# Altium schematic symbol library Components.SchLib: 76 symbols (part 1 of 3)
Pins are listed as number, name and electrical type; pins without a type are passive.

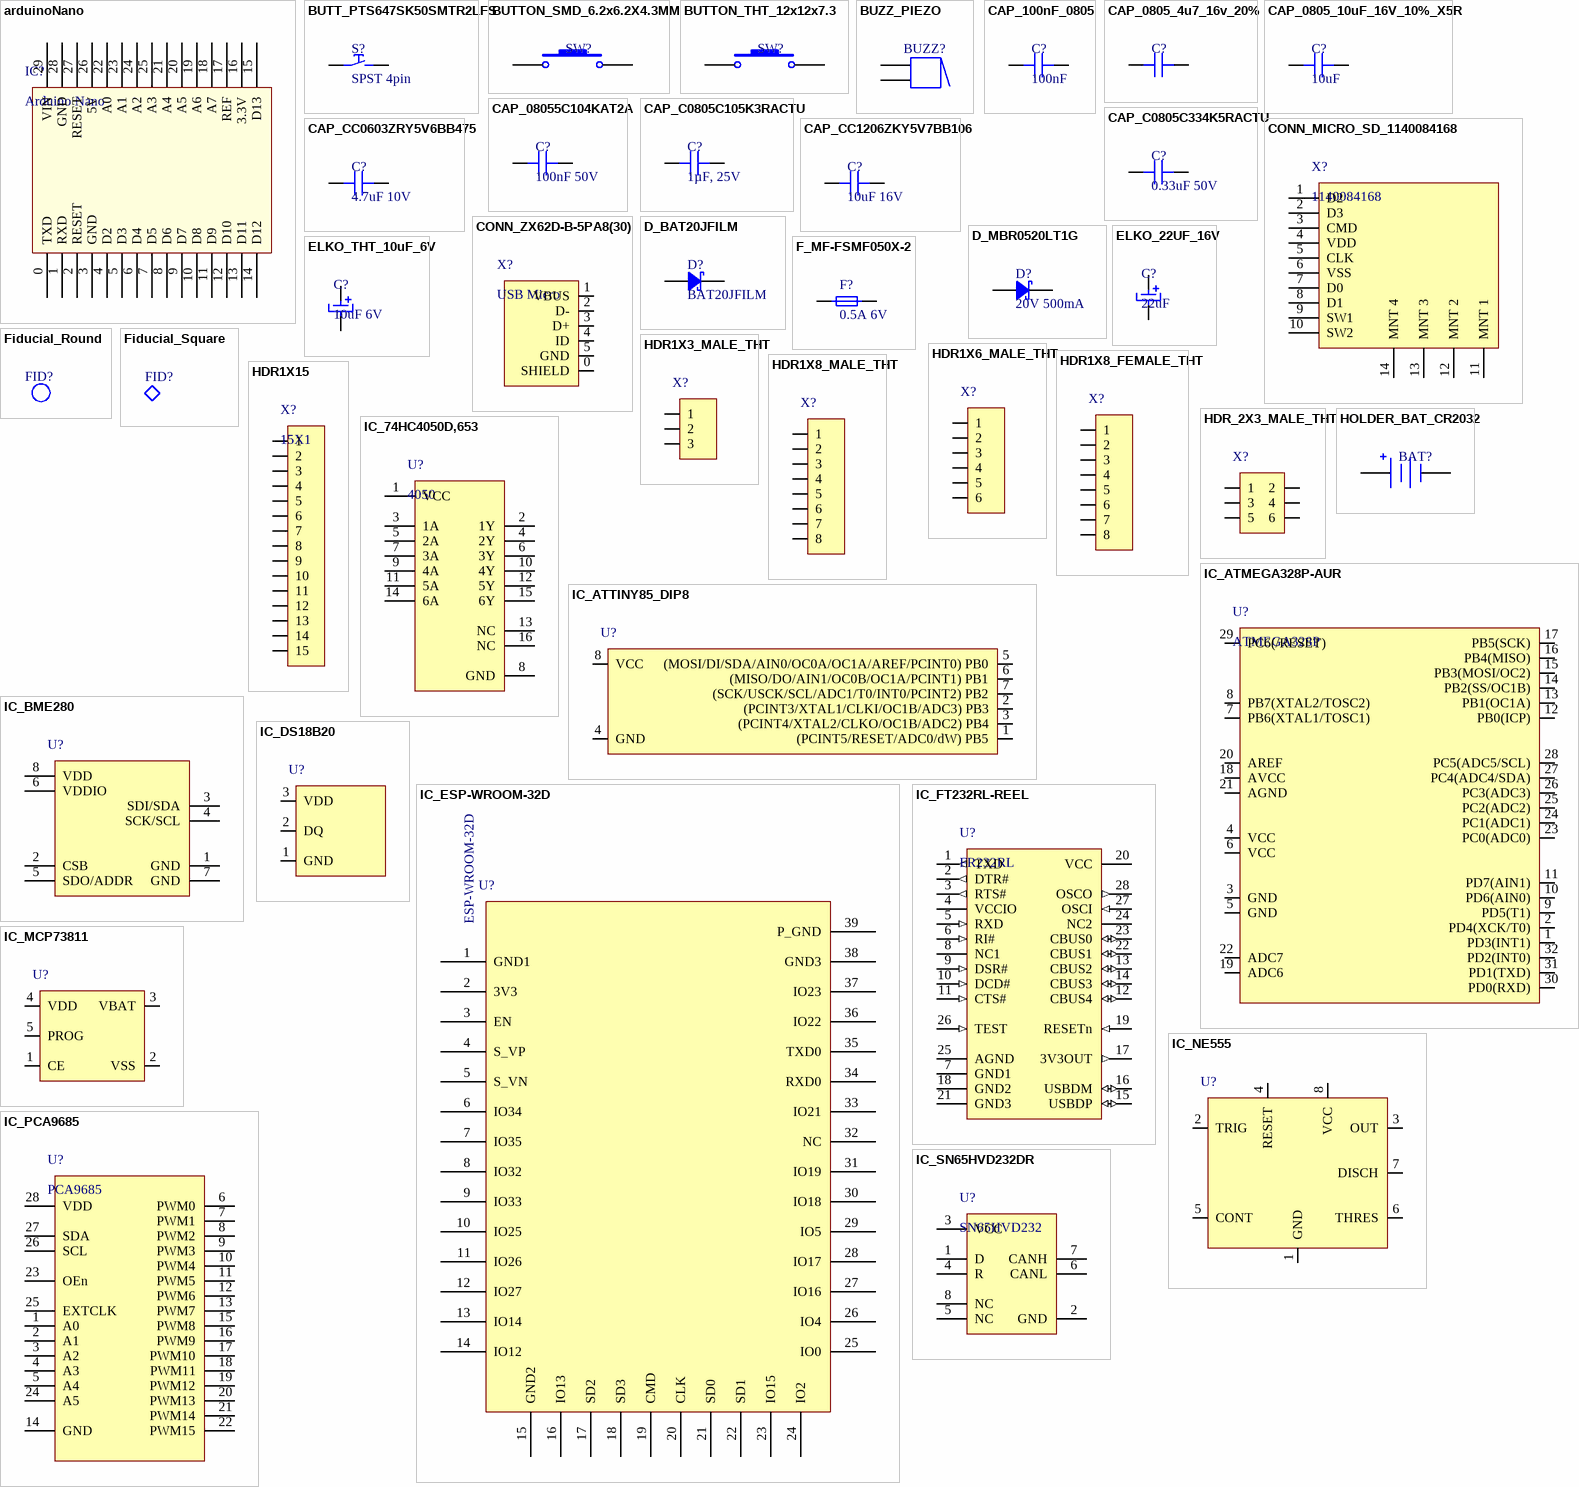
[diagram p0: symbols arduinoNano to IC_SN65HVD232DR]

## arduinoNano
designator IC?, comment Arduino Nano
A small, complete, and breadboard-friendly board based on the ATmega328P
footprint Arduino nano (arduino nano)
pins: 0 TXD, 1 RXD, 2 RESET, 3 GND, 4 D2, 5 D3, 6 D4, 7 D5, 8 D6, 9 D7, 10 D8, 11 D9, 12 D10, 13 D11, 14 D12, 15 D13, 16 3.3V, 17 REF, 18 A7, 19 A6, 20 A5, 21 A4, 22 A0, 23 A1, 24 A2, 25 A3, 26 5V, 27 RESET, 28 GND, 29 VIN

## BUTT_PTS647SK50SMTR2LFS
designator S?, comment SPST 4pin
TACT 4.5 X 4.5, 5.0 MM H, 2.5N,; Manufacturer 1: ITT C&K; Manufacturer Part Number 1: PTS647SK50SMTR2LFS; Supplier 1: Mouser; Stock 1: 15725; Pricing 1: 1=0.160000, 10=0.156000, 25=0.152000, 50=0.146000, 100=0.139000, 250=0.129000, 500=0.124000, 1000=0.086000, 1500=0.082000, 10000=0.082000 (USD); RoHS: No; ComponentLink1URL: https://www.ckswitches.com/media/2567/pts647.pdf?src-supplier=Digi-Key; ComponentLink1Description: https://www.ckswitches.com/media/2567/pts647.pdf?src-supplier=Digi-Key; Supplier Part Number 1: 611-PTS647SK50SMTR2L
footprint TACTILE_SW_PTS647SK50SMTR2LFS (4.5 mm  x 4.5 mm x 5.0 mm)
pins: 1, 2, 3, 4

## BUTTON_SMD_6.2x6.2X4.3MM
designator SW?, comment Tactile switch  (value not drawn)
Diptronics DTSM-61N-V-B SMD Push Button 6 x 4.3mm; Throw Configuration: SPST; Operating Force: 1.57N; Max Voltage Rating (DC): 12V; Contact Resistance: 100mR; Supplier 1: Mouser; Manufacturer 1: Diptronics; Manufacturer Part Number 1: DTSM-61N-V-B; RoHS: Yes; Category: Uncategorized; Stock 1: 5643; Pricing 1: 1=0.27000, 50=0.23200, 100=0.21000, 500=0.19100, 1000=0.17600, 2000=0.15600 (USD); Mount: Surface Mount; Case/Package: SMD/SMT; Contact Material: Stainless Steel; Min Operating Temperature: -25°C; Max Operating Temperature: 70°C; Termination: Gull Wing; Packaging: Rail/Tube; Length: 6mm; Height: 4.3mm; Width: 6mm; Radiation Hardening: No; ComponentLink1URL: https://datasheet.ciiva.com/20148/707546-da-en-01-20148799.pdf?src-supplier=Rapid+Electronics; ComponentLink1Description: https://datasheet.ciiva.com/20148/707546-da-en-01-20148799.pdf?src-supplier=Rapid+Electronics; ComponentLink2URL: https://datasheet.ciiva.com/26337/707546-da-01-en-smd-taster-26337236.pdf?src-supplier=Conrad; ComponentLink2Description: https://datasheet.ciiva.com/26337/707546-da-01-en-smd-taster-26337236.pdf?src-supplier=Conrad; Supplier Part Number 1: 113-DTSM-61N-V-B
footprint TACTILE_SW_6.2mm x 6.2mm x 4.3mm (6.2mm x 6.2mm x 4.3mm)
pins: 1, 2, 3, 4

## BUTTON_THT_12x12x7.3
designator SW?, comment Tactile switch  (value not drawn)
12x12x7.3 mm Tactile Switches Yellow Square Push Button Tact Switch 12*12*7.3 mm Micro switch
footprint BUTTON 12x12x7.3 with cap
pins: 1, 2, 3, 4

## BUZZ_PIEZO
designator BUZZ?, comment Piezo  (value not drawn)
Piezo buzzer
footprint BUZZER_12mmDIA_6.5mmPITCH_8.5mmHEIGHT
pins: 1, 2

## CAP_100nF_0805
designator C?, comment 100nF
Multilayer Ceramic Capacitors MLCC - SMD/SMT WCAP-CSGP 0.1uF 0805 10% 50V MLCC; Manufacturer 1: Wurth Electronics; Manufacturer Part Number 1: 885012207098; Dielectric: X7R; Supplier 1: Mouser; Stock 1: 160801; Pricing 1: 1=0.10000, 10=0.07500, 25=0.07500, 50=0.07500, 100=0.06700, 250=0.06700 (USD); RoHS: Yes; Mount: Surface Mount; Case/Package: 0805; Case Code (Metric): 2012; Case Code (Imperial): 0805; Min Operating Temperature: -55°C; Max Operating Temperature: 125°C; Packaging: Cut Tape; Capacitance: 100nF; Voltage Rating: 50V; Tolerance: 10%; Voltage Rating (DC): 50V; Length: 0.079inch; Width: 0.049inch; Thickness: 0.035inch; REACH SVHC: Unknown; ComponentLink1URL: http://www.farnell.com/datasheets/1958498.pdf?src-supplier=Farnell; ComponentLink1Description: http://www.farnell.com/datasheets/1958498.pdf?src-supplier=Farnell; ComponentLink2URL: http://www.farnell.com/datasheets/1958498.pdf?src-supplier=Element14; ComponentLink2Description: http://www.farnell.com/datasheets/1958498.pdf?src-supplier=Element14; ComponentLink3URL: https://katalog.we-online.de/pbs/datasheet/885012207098.pdf?src-supplier=Digi-Key; ComponentLink3Description: https://katalog.we-online.de/pbs/datasheet/885012207098.pdf?src-supplier=Digi-Key; Supplier Part Number 1: 710-885012207098
footprint CAP 0805/2012 (Chip Capacitor, 2-Leads, Body 2.00x1.20mm, IPC Medium Density)
pins: 1, 2

## CAP_0805_4u7_16v_20%
designator C?, comment 4.7uF  (value not drawn)
Multilayer Ceramic Capacitors MLCC - SMD/SMT WCAP-CSGP 4.7uF 0805 20% 16V MLCC; Manufacturer 1: Wurth Electronics; Manufacturer Part Number 1: 885012107013; Supplier 1: Mouser; Stock 1: 5656; Pricing 1: 1=0.14000, 10=0.12700, 25=0.12700, 50=0.12700, 100=0.11400, 250=0.11400, 500=0.10000, 3000=0.09800 (USD); RoHS: Yes; Mount: Surface Mount; Case/Package: 0805; Case Code (Metric): 2012; Case Code (Imperial): 0805; Min Operating Temperature: -55°C; Max Operating Temperature: 85°C; Packaging: Tape and Reel; Capacitance: 4.7uF; Voltage Rating: 16V; Tolerance: 20%; Length: 0.079inch; Width: 0.049inch; Thickness: 0.057inch; ComponentLink1URL: http://www.farnell.com/datasheets/2031768.pdf?src-supplier=Farnell; ComponentLink1Description: http://www.farnell.com/datasheets/2031768.pdf?src-supplier=Farnell; ComponentLink2URL: https://katalog.we-online.de/pbs/datasheet/885012107013.pdf?src-supplier=Digi-Key; ComponentLink2Description: https://katalog.we-online.de/pbs/datasheet/885012107013.pdf?src-supplier=Digi-Key; Supplier Part Number 1: 710-885012107013
footprint CAP 0805/2012 (Chip Capacitor, 2-Leads, Body 2.00x1.20mm, IPC Medium Density)
pins: 1, 2

## CAP_0805_10uF_16V_10%_X5R
designator C?, comment 10uF
Multilayer Ceramic Capacitors MLCC - SMD/SMT 0805 16VDC 10uF 10% X5R; Manufacturer 1: Taiyo Yuden; Manufacturer Part Number 1: EMK212BJ106KG-T; Voltage Rating (DC): 16V; Supplier 1: Mouser; Stock 1: 550728; Pricing 1: 1=0.18000, 10=0.07300, 100=0.05000, 500=0.04300, 1000=0.03500, 3000=0.02800 (USD); RoHS: Yes; Mount: Surface Mount; Case/Package: 0805; Number of Pins: 2; Case Code (Metric): 2012; Case Code (Imperial): 0805; Min Operating Temperature: -55°C; Max Operating Temperature: 85°C; Capacitance: 10uF; Packaging: Tape and Reel; Tolerance: 10%; Dielectric: X5R; Voltage Rating: 16V; Package Quantity: 1; Termination: SMD/SMT; Composition: Ceramic; Voltage: 16V; Length: 2mm; Height: 1.25mm; Width: 0.049inch; Depth: 1.25mm; Thickness: 0.053inch; Radiation Hardening: No; Lead Free: Lead Free; REACH SVHC: No SVHC; ComponentLink1URL: https://datasheet.ciiva.com/26871/getdatasheetpartid-638258-26871376.pdf?src-supplier=Verical; ComponentLink1Description: https://datasheet.ciiva.com/26871/getdatasheetpartid-638258-26871376.pdf?src-supplier=Verical; ComponentLink2URL: https://datasheet.ciiva.com/22745/1497285-22745845.pdf?src-supplier=Element14; ComponentLink2Description: https://datasheet.ciiva.com/22745/1497285-22745845.pdf?src-supplier=Element14; ComponentLink3URL: https://datasheet.ciiva.com/5815/1497285-5815974.pdf?src-supplier=Farnell; ComponentLink3Description: https://datasheet.ciiva.com/5815/1497285-5815974.pdf?src-supplier=Farnell; ComponentLink4URL: https://datasheet.ciiva.com/22646/1497285-22646823.pdf?src-supplier=Farnell; ComponentLink4Description: https://datasheet.ciiva.com/22646/1497285-22646823.pdf?src-supplier=Farnell; ComponentLink5URL: https://datasheet.ciiva.com/30216/mlcc-all-e-30216073.pdf?src-supplier=Onlinecomponents.com; ComponentLink5Description: https://datasheet.ciiva.com/30216/mlcc-all-e-30216073.pdf?src-supplier=Onlinecomponents.com; ComponentLink6URL: https://datasheet.ciiva.com/7975/1497285-7975643.pdf?src-supplier=Element14; ComponentLink6Description: https://datasheet.ciiva.com/7975/1497285-7975643.pdf?src-supplier=Element14; ComponentLink7URL: https://datasheet.ciiva.com/136/mlcc-all-e-136764.pdf?src-supplier=Digi-Key; ComponentLink7Description: https://datasheet.ciiva.com/136/mlcc-all-e-136764.pdf?src-supplier=Digi-Key; ComponentLink8URL: https://datasheet.ciiva.com/136/mlcc-all-e-136765.pdf?src-supplier=Digi-Key; ComponentLink8Description: https://datasheet.ciiva.com/136/mlcc-all-e-136765.pdf?src-supplier=Digi-Key; ComponentLink9URL: https://datasheet.ciiva.com/5424/mlcc-all-e-541559-5424733.pdf?src-supplier=Mouser; ComponentLink9Description: https://datasheet.ciiva.com/5424/mlcc-all-e-541559-5424733.pdf?src-supplier=Mouser; ComponentLink10URL: https://datasheet.ciiva.com/136/mlcc-all-e-136766.pdf?src-supplier=Digi-Key; ComponentLink10Description: https://datasheet.ciiva.com/136/mlcc-all-e-136766.pdf?src-supplier=Digi-Key; ComponentLink11URL: https://datasheet.ciiva.com/15920/mlcc-all-e-15920526.pdf?src-supplier=Onlinecomponents.com; ComponentLink11Description: https://datasheet.ciiva.com/15920/mlcc-all-e-15920526.pdf?src-supplier=Onlinecomponents.com; Supplier Part Number 1: 963-EMK212BJ106KG-T
footprint CAP 0805/2012 (Chip Capacitor, 2-Leads, Body 2.00x1.20mm, IPC Medium Density)
pins: 1, 2

## CAP_08055C104KAT2A
designator C?, comment 100nF 50V
CAP CER 0.1UF 50V X7R 0805; Manufacturer 1: Kyocera AVX; Manufacturer Part Number 1: 08055C104KAT2A; Dielectric Material: Ceramic; Tolerance: 10%; Dissipation Factor: 2.5%; Insulation Resistance: 100GR; Supplier 1: Mouser; Stock 1: 2316993; Pricing 1: 1=0.190000, 10=0.140000, 50=0.140000, 100=0.066000, 500=0.046000, 1000=0.038000, 2000=0.032000, 4000=0.030000, 10000=0.030000 (USD); RoHS: Yes; Mount: Surface Mount,PCB; Case/Package: 0805; Number of Pins: 2; Case Code (Metric): 2012; Case Code (Imperial): 0805; Min Operating Temperature: -55°C; Max Operating Temperature: 125°C; Capacitance: 100nF; Dielectric: X7R; Voltage Rating (DC): 50V; Packaging: Tape and Reel; Voltage Rating: 50V; Package Quantity: 1; Termination: SMD/SMT; Voltage: 50V; Length: 2.01mm; Height: 0.94mm; Depth: 1.25mm; Width: 0.049inch; Thickness: 0.037inch; Radiation Hardening: No; REACH SVHC: No SVHC; Lead Free: Lead Free; ComponentLink1URL: https://datasheet.ciiva.com/19475/2009691-19475858.pdf?src-supplier=Jameco; ComponentLink1Description: https://datasheet.ciiva.com/19475/2009691-19475858.pdf?src-supplier=Jameco; ComponentLink2URL: https://datasheet.ciiva.com/11786/0900766b802d4698-11786116.pdf?src-supplier=RSComponents; ComponentLink2Description: https://datasheet.ciiva.com/11786/0900766b802d4698-11786116.pdf?src-supplier=RSComponents; ComponentLink3URL: https://datasheet.ciiva.com/150/cx7r-150257.pdf?src-supplier=Digi-Key; ComponentLink3Description: https://datasheet.ciiva.com/150/cx7r-150257.pdf?src-supplier=Digi-Key; ComponentLink4URL: https://datasheet.ciiva.com/150/cx7r-150258.pdf?src-supplier=Digi-Key; ComponentLink4Description: https://datasheet.ciiva.com/150/cx7r-150258.pdf?src-supplier=Digi-Key; ComponentLink5URL: https://datasheet.ciiva.com/150/cx7r-150259.pdf?src-supplier=Digi-Key; ComponentLink5Description: https://datasheet.ciiva.com/150/cx7r-150259.pdf?src-supplier=Digi-Key; ComponentLink6URL: https://datasheet.ciiva.com/16199/cx7r-16199014.pdf?src-supplier=Future+Electronics; ComponentLink6Description: https://datasheet.ciiva.com/16199/cx7r-16199014.pdf?src-supplier=Future+Electronics; ComponentLink7URL: https://datasheet.ciiva.com/16536/cx7r-16536873.pdf?src-supplier=Avnet+Asia; ComponentLink7Description: https://datasheet.ciiva.com/16536/cx7r-16536873.pdf?src-supplier=Avnet+Asia; ComponentLink8URL: https://datasheet.ciiva.com/16536/cx7r-16536875.pdf?src-supplier=Avnet+Asia; ComponentLink8Description: https://datasheet.ciiva.com/16536/cx7r-16536875.pdf?src-supplier=Avnet+Asia; ComponentLink9URL: https://datasheet.ciiva.com/11504/cx7r-11504044.pdf?src-supplier=Avnet; ComponentLink9Description: https://datasheet.ciiva.com/11504/cx7r-11504044.pdf?src-supplier=Avnet; ComponentLink10URL: https://datasheet.ciiva.com/2988/cx7r-2988014.pdf?src-supplier=Avnet; ComponentLink10Description: https://datasheet.ciiva.com/2988/cx7r-2988014.pdf?src-supplier=Avnet; ComponentLink11URL: https://datasheet.ciiva.com/5416/cx7r-5416959.pdf?src-supplier=Mouser; ComponentLink11Description: https://datasheet.ciiva.com/5416/cx7r-5416959.pdf?src-supplier=Mouser; ComponentLink12URL: https://datasheet.ciiva.com/7812/cx7r-7812079.pdf?src-supplier=Element14; ComponentLink12Description: https://datasheet.ciiva.com/7812/cx7r-7812079.pdf?src-supplier=Element14; Supplier Part Number 1: 581-08055C104K
footprint CAP 0805/2012 (Chip Capacitor, 2-Leads, Body 2.00x1.20mm, IPC Medium Density)
pins: 1, 2

## CAP_C0805C105K3RACTU
designator C?, comment 1µF, 25V
CAP, 1µF, 25V, 10%, X7R, 0805, KEMET; Manufacturer Part Number 1: C0805C105K3RACTU; Dielectric Material: Ceramic; Capacitance: 1uF; Supplier 1: Mouser; Manufacturer 1: KEMET; Stock 1: 158908; Pricing 1: 1=0.16000, 10=0.11600, 50=0.11600, 100=0.05500, 500=0.03900, 1000=0.03200, 2500=0.02400, 10000=0.02400 (USD); RoHS: Yes; Mount: Surface Mount; Case/Package: 0805; Number of Pins: 2; Case Code (Imperial): 0805; Case Code (Metric): 2012; Contact Plating: Tin,Matte; Min Operating Temperature: -55°C; Max Operating Temperature: 125°C; Tolerance: 10%; Packaging: Tape and Reel; Dielectric: X7R; Package Quantity: 1; Voltage Rating: 25V; Voltage Rating (DC): 25V; Termination: SMD/SMT; Voltage: 25V; Length: 2mm; Height: 1.25mm; Width: 0.049inch; Thickness: 0.055inch; Depth: 1.25mm; Radiation Hardening: No; REACH SVHC: No SVHC; ComponentLink1URL: https://datasheet.ciiva.com/6074/kem-c1002-x7r-smd-6074661.pdf?src-supplier=Farnell; ComponentLink1Description: https://datasheet.ciiva.com/6074/kem-c1002-x7r-smd-6074661.pdf?src-supplier=Farnell; ComponentLink2URL: https://datasheet.ciiva.com/28610/1918693-28610874.pdf?src-supplier=Element14; ComponentLink2Description: https://datasheet.ciiva.com/28610/1918693-28610874.pdf?src-supplier=Element14; ComponentLink3URL: https://datasheet.ciiva.com/46443/1851736-46443533.pdf?src-supplier=Element14; ComponentLink3Description: https://datasheet.ciiva.com/46443/1851736-46443533.pdf?src-supplier=Element14; Supplier Part Number 1: 80-C0805C105K3R
footprint CAP 0805/2012 (Chip Capacitor, 2-Leads, Body 2.00x1.20mm, IPC Medium Density)
pins: 1, 2

## CAP_C0805C334K5RACTU
designator C?, comment 0.33uF 50V
CAP 50volts 0.33uF 10% X7R Multilayer Ceramic Capacitors MLCC; Manufacturer 1: KEMET; Manufacturer Part Number 1: C0805C334K5RACTU; Capacitance: 330nF; Supplier 1: Mouser; Stock 1: 41168; Pricing 1: 1=0.29000, 10=0.24000, 50=0.24000, 100=0.10800, 1000=0.09100, 4000=0.08100, 8000=0.07400, 10000=0.07400 (USD); RoHS: Yes; Mount: Surface Mount; Case/Package: 0805; Case Code (Metric): 2012; Case Code (Imperial): 0805; Dielectric Material: Ceramic; Min Operating Temperature: -55°C; Max Operating Temperature: 125°C; Tolerance: 10%; Packaging: Tape and Reel; Package Quantity: 4000; Voltage Rating: 50V; Voltage Rating (DC): 50V; Dielectric: X7R; Termination: SMD/SMT; Voltage: 50V; Length: 2mm; Height: 0.9mm; Width: 0.049inch; Thickness: 0.039inch; Depth: 1.25mm; Radiation Hardening: No; REACH SVHC: No SVHC; ComponentLink1URL: https://datasheet.ciiva.com/18193/getdatasheetpartid-385729-18193783.pdf?src-supplier=Verical; ComponentLink1Description: https://datasheet.ciiva.com/18193/getdatasheetpartid-385729-18193783.pdf?src-supplier=Verical; ComponentLink2URL: https://datasheet.ciiva.com/18193/getdatasheetpartid-93202-18193786.pdf?src-supplier=Verical; ComponentLink2Description: https://datasheet.ciiva.com/18193/getdatasheetpartid-93202-18193786.pdf?src-supplier=Verical; ComponentLink3URL: https://datasheet.ciiva.com/28608/1851736-28608437.pdf?src-supplier=Element14; ComponentLink3Description: https://datasheet.ciiva.com/28608/1851736-28608437.pdf?src-supplier=Element14; ComponentLink4URL: https://datasheet.ciiva.com/28696/1851736-28696038.pdf?src-supplier=Element14; ComponentLink4Description: https://datasheet.ciiva.com/28696/1851736-28696038.pdf?src-supplier=Element14; Supplier Part Number 1: 80-C0805C334K5R
footprint CAP 0805/2012 (Chip Capacitor, 2-Leads, Body 2.00x1.20mm, IPC Medium Density)
pins: 1, 2

## CAP_CC0603ZRY5V6BB475
designator C?, comment 4.7uF 10V
Cap Ceramic 4.7uF 10V Y5V -20% to 80% SMD 0603 85C Paper T/R; Manufacturer 1: Yageo; Manufacturer Part Number 1: CC0603ZRY5V6BB475; Supplier 1: Mouser; Stock 1: 0; Pricing 1: 1=0.19000, 10=0.09400, 50=0.09400, 100=0.04700, 1000=0.04000, 4000=0.03000, 8000=0.02800, 10000=0.02800, 24000=0.02700, 48000=0.02500, 100000=0.02100 (USD); RoHS: Yes; Mount: Surface Mount; Case/Package: 0603; Weight: 7.1E-05oz; Case Code (Imperial): 0603; Case Code (Metric): 1608; Min Operating Temperature: -30°C; Max Operating Temperature: 85°C; Capacitance: 4.7uF; Voltage Rating (DC): 10V; Tolerance: 80%; Packaging: Tape and Reel; Dielectric: Y5V; Voltage Rating: 10V; Termination: SMD/SMT; Composition: Ceramic; Length: 0.063inch; Width: 0.031inch; Thickness: 0.035inch; Lead Free: Lead Free; Halogen Free: Halogen Free; ComponentLink1URL: http://components.arrow.com/part/dataview/0323_04166549?src-supplier=Arrow+Europe; ComponentLink1Description: http://components.arrow.com/part/dataview/0323_04166549?src-supplier=Arrow+Europe; ComponentLink2URL: http://www.mouser.com/ds/2/447/Yageo_UPY-GP_NP0_16V-to-50V_9-358835.pdf?src-supplier=Mouser; ComponentLink2Description: http://www.mouser.com/ds/2/447/Yageo_UPY-GP_NP0_16V-to-50V_9-358835.pdf?src-supplier=Mouser; ComponentLink3URL: http://www.yageo.com/documents/recent/UPY-GPHC_Y5V_6.3V-to-50V_8.pdf?src-supplier=Digi-Key; ComponentLink3Description: http://www.yageo.com/documents/recent/UPY-GPHC_Y5V_6.3V-to-50V_8.pdf?src-supplier=Digi-Key; Supplier Part Number 1: 603-CC603ZRY5V6BB475
footprint CAP 0603/1608 (Chip Capacitor, 2-Leads, Body 1.60x0.80mm, IPC Medium Density)
pins: 1, 2

## CAP_CC1206ZKY5V7BB106
designator C?, comment 10uF 16V
CAP CER 10UF 16V Y5V 1206; Manufacturer 1: Yageo; Manufacturer Part Number 1: CC1206ZKY5V7BB106; Tolerance: 80%; Supplier 1: Mouser; Stock 1: 88099; Pricing 1: 1=0.37000, 10=0.23700, 50=0.23700, 100=0.12100, 1000=0.10300, 3000=0.07600, 9000=0.07100, 10000=0.07100, 45000=0.06700, 99000=0.06200 (USD); RoHS: Yes; Mount: Surface Mount; Case/Package: 1206; Number of Pins: 2; Weight: 0.000571oz; Case Code (Imperial): 1206; Case Code (Metric): 3216; Min Operating Temperature: -30°C; Max Operating Temperature: 85°C; Capacitance: 10uF; Dielectric: Y5V; Packaging: Tape and Reel; Voltage Rating: 16V; Package Quantity: 1; Voltage Rating (DC): 16V; Termination: SMD/SMT; Composition: Ceramic; Length: 3.2mm; Height: 1.15mm; Depth: 1.6mm; Width: 1.6mm; Thickness: 0.049inch; Radiation Hardening: No; REACH SVHC: No SVHC; Lead Free: Lead Free; Halogen Free: Halogen Free; ComponentLink1URL: https://datasheet.ciiva.com/15189/getdatasheetpartid-344056-15189287.pdf?src-supplier=Verical; ComponentLink1Description: https://datasheet.ciiva.com/15189/getdatasheetpartid-344056-15189287.pdf?src-supplier=Verical; ComponentLink2URL: https://datasheet.ciiva.com/7978/1132289-7978232.pdf?src-supplier=Element14; ComponentLink2Description: https://datasheet.ciiva.com/7978/1132289-7978232.pdf?src-supplier=Element14; ComponentLink3URL: https://datasheet.ciiva.com/13263/upy-gp-np0-16v-to-50v-8-3714-13263897.pdf?src-supplier=Mouser; ComponentLink3Description: https://datasheet.ciiva.com/13263/upy-gp-np0-16v-to-50v-8-3714-13263897.pdf?src-supplier=Mouser; ComponentLink4URL: https://datasheet.ciiva.com/16624/upy-gphc-y5v-6-3v-to-50v-5-16624042.pdf?src-supplier=Avnet+Europe; ComponentLink4Description: https://datasheet.ciiva.com/16624/upy-gphc-y5v-6-3v-to-50v-5-16624042.pdf?src-supplier=Avnet+Europe; ComponentLink5URL: https://datasheet.ciiva.com/16747/upy-gphc-y5v-6-3v-to-50v-5-revised-16747420.pdf?src-supplier=Future+Electronics; ComponentLink5Description: https://datasheet.ciiva.com/16747/upy-gphc-y5v-6-3v-to-50v-5-revised-16747420.pdf?src-supplier=Future+Electronics; ComponentLink6URL: https://datasheet.ciiva.com/145/mlccorderingcode-145693.pdf?src-supplier=Digi-Key; ComponentLink6Description: https://datasheet.ciiva.com/145/mlccorderingcode-145693.pdf?src-supplier=Digi-Key; ComponentLink7URL: https://datasheet.ciiva.com/145/mlccorderingcode-145694.pdf?src-supplier=Digi-Key; ComponentLink7Description: https://datasheet.ciiva.com/145/mlccorderingcode-145694.pdf?src-supplier=Digi-Key; ComponentLink8URL: https://datasheet.ciiva.com/145/mlccorderingcode-145695.pdf?src-supplier=Digi-Key; ComponentLink8Description: https://datasheet.ciiva.com/145/mlccorderingcode-145695.pdf?src-supplier=Digi-Key; ComponentLink9URL: https://datasheet.ciiva.com/11466/upy-gphc-y5v-6-3v-to-50v-5-11466847.pdf?src-supplier=Avnet; ComponentLink9Description: https://datasheet.ciiva.com/11466/upy-gphc-y5v-6-3v-to-50v-5-11466847.pdf?src-supplier=Avnet; Supplier Part Number 1: 603-CC126ZKY5V7BB106
footprint CAP 1206/3216 - 1.2MM (Chip Capacitor, 2-Leads, Body 3.25x1.60mm, IPC Medium Density)
pins: 1, 2

## CONN_MICRO_SD_1140084168
designator X?, comment 1140084168
Memory Card Connectors Micro SD 8 Pin PCB Gold; Manufacturer 1: Amphenol Commercial; Number of Contacts: 8; Gender: Receptacle; Pitch: 1.1mm; Supplier 1: Mouser; Manufacturer Part Number 1: 1140084168; Stock 1: 11073; Pricing 1: 1=1.40000, 10=1.24000, 25=1.16000, 50=1.12000, 100=1.07000, 250=0.97400, 500=0.79700, 1000=0.70800, 2500=0.70400 (USD); RoHS: Yes; Mount: Surface Mount; Contact Material: Copper Alloy,Copper; Contact Plating: Gold; Housing Material: Polymer; Package Quantity: 7500; Packaging: Tape and Reel; Number of Rows: 1; Connector Type: Connector; Termination: SMD/SMT; Orientation: Right Angle; Length: 15.6mm; Height: 1.55mm; Depth: 11.45mm; Radiation Hardening: No; REACH SVHC: Unknown; Lead Free: Lead Free; Flammability Rating: UL94 V-0; ComponentLink1URL: https://datasheet.ciiva.com/24241/11400841-283410-24241569.pdf?src-supplier=Mouser; ComponentLink1Description: https://datasheet.ciiva.com/24241/11400841-283410-24241569.pdf?src-supplier=Mouser; ComponentLink2URL: https://datasheet.ciiva.com/28408/11400841-28408193.pdf?src-supplier=Element14; ComponentLink2Description: https://datasheet.ciiva.com/28408/11400841-28408193.pdf?src-supplier=Element14; ComponentLink3URL: https://datasheet.ciiva.com/9464/1140084168-9464901.pdf?src-supplier=Avnet; ComponentLink3Description: https://datasheet.ciiva.com/9464/1140084168-9464901.pdf?src-supplier=Avnet; ComponentLink4URL: https://datasheet.ciiva.com/48965/70323450-48965706.pdf?src-supplier=Allied+Electronics; ComponentLink4Description: https://datasheet.ciiva.com/48965/70323450-48965706.pdf?src-supplier=Allied+Electronics; ComponentLink5URL: https://datasheet.ciiva.com/16655/1140084168-16655293.pdf?src-supplier=Avnet+Europe; ComponentLink5Description: https://datasheet.ciiva.com/16655/1140084168-16655293.pdf?src-supplier=Avnet+Europe; Supplier Part Number 1: 523-114-00841-68
footprint Amphenol_1140084168_0 (Footprint not found)
pins: 1 D2, 2 D3, 3 CMD, 4 VDD, 5 CLK, 6 VSS, 7 D0, 8 D1, 9 SW1, 10 SW2, 11 MNT 1, 12 MNT 2, 13 MNT 3, 14 MNT 4

## CONN_ZX62D-B-5PA8(30)
designator X?, comment USB Micro
CONN RCPT USB MICRO B 2.0 5P SMD; Manufacturer 1: Hirose; Manufacturer Part Number 1: ZX62D-B-5PA8(30); Number of Contacts: 5; Gender: Receptacle; USB Standard: USB 2.0; Supplier 1: Mouser; Stock 1: 21257; Pricing 1: 1=0.70000, 10=0.56000, 50=0.56000, 100=0.46200, 500=0.44000, 1000=0.36300, 2000=0.33000, 4000=0.31900, 10000=0.31900 (USD); RoHS: Yes; Mount: Surface Mount,Horizontal; Number of Pins: 5; Contact Material: Copper Alloy; Contact Plating: Gold; Packaging: Tape and Reel; Connector Type: USB; Orientation: Right Angle; REACH SVHC: Unknown; Lead Free: Lead Free; ComponentLink1URL: http://www.farnell.com/datasheets/2691174.pdf?src-supplier=Farnell; ComponentLink1Description: http://www.farnell.com/datasheets/2691174.pdf?src-supplier=Farnell; ComponentLink2URL: http://www.farnell.com/datasheets/2691174.pdf?src-supplier=Newark; ComponentLink2Description: http://www.farnell.com/datasheets/2691174.pdf?src-supplier=Newark; ComponentLink3URL: http://www.farnell.com/datasheets/2060515.pdf?src-supplier=Element14; ComponentLink3Description: http://www.farnell.com/datasheets/2060515.pdf?src-supplier=Element14; ComponentLink4URL: https://www.hirose.com/product/download/?distributor=digikey&amp;type=2d&amp;lang=en&amp;num=ZX62D-B-5PA8(30)&src-supplier=Digi-Key; ComponentLink4Description: https://www.hirose.com/product/download/?distributor=digikey&amp;type=2d&amp;lang=en&amp;num=ZX62D-B-5PA8(30)&src-supplier=Digi-Key; ComponentLink5URL: https://www.hirose.com/product/en/download_file/key_name/ZX/category/Catalog/doc_file_id/31704/?file_category_id=4&item_id=13&is_series=1&src-supplier=Digi-Key; ComponentLink5Description: https://www.hirose.com/product/en/download_file/key_name/ZX/category/Catalog/doc_file_id/31704/?file_category_id=4&item_id=13&is_series=1&src-supplier=Digi-Key; Supplier Part Number 1: 798-ZX62D-B-5PA830
footprint ZX62D-B-5PA8
pins: 0 SHIELD, 1 VBUS, 2 D-, 3 D+, 4 ID, 5 GND

## D_BAT20JFILM
designator D?, comment BAT20JFILM
Schottky Diodes & Rectifiers RECTIFIER 1A 23V; Manufacturer 1: STMicroelectronics; Peak Reverse Current: 12uA; Max Surge Current: 5A; Forward Voltage: 620mV; Element Configuration: Single; Polarity: Standard; Capacitance: 30pF; Supplier 1: Mouser; Manufacturer Part Number 1: BAT20JFILM; Stock 1: 11502; Pricing 1: 1=0.38000, 10=0.28300, 100=0.15400, 1000=0.11500, 3000=0.09900, 9000=0.09300, 24000=0.08500, 45000=0.08200, 99000=0.07900 (USD); RoHS: Yes; Mount: Surface Mount; Number of Pins: 2; Weight: 0.01lb; Min Operating Temperature: -65°C; Max Operating Temperature: 150°C; Package Quantity: 1; Packaging: Tape and Reel; Forward Current: 1A; Average Rectified Current: 1A; Max Reverse Leakage Current: 12uA; Max Repetitive Reverse Voltage (Vrrm): 23V; Peak Non-Repetitive Surge Current: 5A; Max Forward Surge Current (Ifsm): 5A; Voltage Rating (DC): 23V; Output Current: 1A; Current Rating: 1A; Max Reverse Voltage (DC): 23V; Length: 1.8mm; Height: 1.03mm; Width: 1.35mm; Radiation Hardening: No; REACH SVHC: No SVHC; Lead Free: Lead Free; ComponentLink1URL: https://datasheet.ciiva.com/23916/1700331-23916544.pdf?src-supplier=Newark; ComponentLink1Description: https://datasheet.ciiva.com/23916/1700331-23916544.pdf?src-supplier=Newark; ComponentLink2URL: https://datasheet.ciiva.com/16984/0900766b80ec7fd9-16984585.pdf?src-supplier=Allied+Electronics; ComponentLink2Description: https://datasheet.ciiva.com/16984/0900766b80ec7fd9-16984585.pdf?src-supplier=Allied+Electronics; ComponentLink3URL: https://datasheet.ciiva.com/915/cd00012201-915680.pdf?src-supplier=Digi-Key; ComponentLink3Description: https://datasheet.ciiva.com/915/cd00012201-915680.pdf?src-supplier=Digi-Key; ComponentLink4URL: https://datasheet.ciiva.com/915/cd00012201-915681.pdf?src-supplier=Digi-Key; ComponentLink4Description: https://datasheet.ciiva.com/915/cd00012201-915681.pdf?src-supplier=Digi-Key; ComponentLink5URL: https://datasheet.ciiva.com/915/cd00012201-915682.pdf?src-supplier=Digi-Key; ComponentLink5Description: https://datasheet.ciiva.com/915/cd00012201-915682.pdf?src-supplier=Digi-Key; Supplier Part Number 1: 511-BAT20JFILM
footprint SOD253X128X117L25X34N (Diode, Small Outline Diode (SOD); 1.66 mm L X 1.28 mm W X 1.17 mm H body)
pins: A 1, C 2

## D_MBR0520LT1G
designator D?, comment 20V 500mA
DIODE SCHOTTKY 20V 500MA SOD123; Manufacturer 1: ON Semiconductor; Manufacturer Part Number 1: MBR0520LT1G; Forward Voltage: 385mV; Polarity: Standard; Max Surge Current: 5.5A; Peak Reverse Current: 250uA; Element Configuration: Single; Supplier 1: Mouser; Stock 1: 177146; Pricing 1: 1=0.29000, 10=0.19800, 50=0.19800, 100=0.08200, 1000=0.05600, 3000=0.04400, 9000=0.03700, 10000=0.03700, 24000=0.03500, 45000=0.03300, 99000=0.03200 (USD); RoHS: Yes; Case/Package: SOD-123-2; Number of Pins: 2; Contact Plating: Tin,Matte; Min Operating Temperature: -65°C; Max Operating Temperature: 125°C; Packaging: Tape and Reel; Voltage Rating (DC): 20V; Current Rating: 500mA; Output Current: 500mA; Package Quantity: 3000; Forward Current: 500mA; Average Rectified Current: 500mA; Max Reverse Leakage Current: 250uA; Max Repetitive Reverse Voltage (Vrrm): 20V; Peak Non-Repetitive Surge Current: 5.5A; Max Forward Surge Current (Ifsm): 5.5A; Termination: SMD/SMT; Max Reverse Voltage (DC): 20V; Length: 2.69mm; Height: 1.12mm; Width: 1.6mm; Radiation Hardening: No; REACH SVHC: No SVHC; Lead Free: Lead Free; ComponentLink1URL: https://datasheet.ciiva.com/915/mbr0520lt1-d-915488.pdf?src-supplier=Digi-Key; ComponentLink1Description: https://datasheet.ciiva.com/915/mbr0520lt1-d-915488.pdf?src-supplier=Digi-Key; ComponentLink2URL: https://datasheet.ciiva.com/915/mbr0520lt1-d-915488.pdf?src-supplier=Avnet; ComponentLink2Description: https://datasheet.ciiva.com/915/mbr0520lt1-d-915488.pdf?src-supplier=Avnet; ComponentLink3URL: https://datasheet.ciiva.com/14168/sy600925-e-14168052.pdf?src-supplier=Distrelec; ComponentLink3Description: https://datasheet.ciiva.com/14168/sy600925-e-14168052.pdf?src-supplier=Distrelec; ComponentLink4URL: https://datasheet.ciiva.com/25954/mbr0520lt1-d-25954134.pdf?src-supplier=Avnet+Europe; ComponentLink4Description: https://datasheet.ciiva.com/25954/mbr0520lt1-d-25954134.pdf?src-supplier=Avnet+Europe; ComponentLink5URL: https://datasheet.ciiva.com/7962/mbr0520lt1-d-7962698.pdf?src-supplier=Element14; ComponentLink5Description: https://datasheet.ciiva.com/7962/mbr0520lt1-d-7962698.pdf?src-supplier=Element14; ComponentLink6URL: https://datasheet.ciiva.com/14559/70099495-14559898.pdf?src-supplier=Allied+Electronics; ComponentLink6Description: https://datasheet.ciiva.com/14559/70099495-14559898.pdf?src-supplier=Allied+Electronics; ComponentLink7URL: https://datasheet.ciiva.com/915/mbr0520lt1-d-915490.pdf?src-supplier=Digi-Key; ComponentLink7Description: https://datasheet.ciiva.com/915/mbr0520lt1-d-915490.pdf?src-supplier=Digi-Key; ComponentLink8URL: https://datasheet.ciiva.com/915/mbr0520lt1-d-915489.pdf?src-supplier=Digi-Key; ComponentLink8Description: https://datasheet.ciiva.com/915/mbr0520lt1-d-915489.pdf?src-supplier=Digi-Key; ComponentLink9URL: https://datasheet.ciiva.com/7961/mbr0520lt1-d-7961765.pdf?src-supplier=Element14; ComponentLink9Description: https://datasheet.ciiva.com/7961/mbr0520lt1-d-7961765.pdf?src-supplier=Element14; ComponentLink10URL: https://datasheet.ciiva.com/5762/mbr0520lt1-d-5762889.pdf?src-supplier=Farnell; ComponentLink10Description: https://datasheet.ciiva.com/5762/mbr0520lt1-d-5762889.pdf?src-supplier=Farnell; ComponentLink11URL: https://datasheet.ciiva.com/16395/mbr0520lt1-d-16395977.pdf?src-supplier=Future+Electronics; ComponentLink11Description: https://datasheet.ciiva.com/16395/mbr0520lt1-d-16395977.pdf?src-supplier=Future+Electronics; ComponentLink12URL: https://datasheet.ciiva.com/16475/mbr0520lt1-d-16475465.pdf?src-supplier=Avnet+Asia; ComponentLink12Description: https://datasheet.ciiva.com/16475/mbr0520lt1-d-16475465.pdf?src-supplier=Avnet+Asia; ComponentLink13URL: https://datasheet.ciiva.com/5762/mbr0520lt1-d-5762891.pdf?src-supplier=Farnell; ComponentLink13Description: https://datasheet.ciiva.com/5762/mbr0520lt1-d-5762891.pdf?src-supplier=Farnell; ComponentLink14URL: https://datasheet.ciiva.com/7962/mbr0520lt1-d-7962699.pdf?src-supplier=Element14; ComponentLink14Description: https://datasheet.ciiva.com/7962/mbr0520lt1-d-7962699.pdf?src-supplier=Element14; ComponentLink15URL: https://datasheet.ciiva.com/4714/mbr0520lt1-d-94265-4714156.pdf?src-supplier=Mouser; ComponentLink15Description: https://datasheet.ciiva.com/4714/mbr0520lt1-d-94265-4714156.pdf?src-supplier=Mouser; Supplier Part Number 1: 863-MBR0520LT1G
footprint SOD-123 (SOD, 2-Leads, Body 1.55x3.70mm, IPC Medium Density)
pins: 1, 2

## ELKO_22UF_16V
designator C?, comment 22uF
Aluminium Electrolytic Capacitors - SMD 22uF 16V; Manufacturer 1: Panasonic; Manufacturer Part Number 1: EEE-1CA220SR; Ripple Current (AC): 39mA; Tolerance: 20%; Life (Hours): 2000Hour; Leakage Current: 3uA; Lead Length: 2.2mm; Supplier 1: Mouser; Stock 1: 14060; Pricing 1: 1=0.29000, 10=0.20400, 100=0.09100, 1000=0.07400, 2000=0.06500, 10000=0.06200, 25000=0.05600, 50000=0.05300, 100000=0.04800 (USD); RoHS: Yes; Mount: Surface Mount,PCB; Case/Package: Radial; Number of Pins: 2; Dielectric Material: Aluminium; Min Operating Temperature: -40°C; Max Operating Temperature: 85°C; Capacitance: 22uF; Voltage Rating: 16V; Packaging: Tape and Reel; Voltage Rating (DC): 16V; Ripple Current: 39mA; Package Quantity: 1; Termination: SMD/SMT; Voltage: 16V; Diameter: 5mm; Length: 5.5mm; Height: 5.4mm; Height - Seated (Max): 0.213inch; Lead Pitch: 1.5mm; Width: 5.3mm; Radiation Hardening: No; REACH SVHC: No SVHC; Lead Free: Lead Free; ComponentLink1URL: https://datasheet.ciiva.com/11779/0900766b8078636e-11779629.pdf?src-supplier=RSComponents; ComponentLink1Description: https://datasheet.ciiva.com/11779/0900766b8078636e-11779629.pdf?src-supplier=RSComponents; ComponentLink2URL: https://datasheet.ciiva.com/2985/aba0000ce2-2985074.pdf?src-supplier=Avnet; ComponentLink2Description: https://datasheet.ciiva.com/2985/aba0000ce2-2985074.pdf?src-supplier=Avnet; ComponentLink3URL: https://datasheet.ciiva.com/2985/aba0000ce2-2985075.pdf?src-supplier=Avnet; ComponentLink3Description: https://datasheet.ciiva.com/2985/aba0000ce2-2985075.pdf?src-supplier=Avnet; ComponentLink4URL: https://datasheet.ciiva.com/30061/11aba0000ce2-30061845.pdf?src-supplier=Onlinecomponents.com; ComponentLink4Description: https://datasheet.ciiva.com/30061/11aba0000ce2-30061845.pdf?src-supplier=Onlinecomponents.com; ComponentLink5URL: https://datasheet.ciiva.com/24026/aba0000ce2-40801-24026071.pdf?src-supplier=Mouser; ComponentLink5Description: https://datasheet.ciiva.com/24026/aba0000ce2-40801-24026071.pdf?src-supplier=Mouser; ComponentLink6URL: https://datasheet.ciiva.com/43485/aba0000ce2-43485608.pdf?src-supplier=Farnell; ComponentLink6Description: https://datasheet.ciiva.com/43485/aba0000ce2-43485608.pdf?src-supplier=Farnell; ComponentLink7URL: https://datasheet.ciiva.com/14604/70255710-14604313.pdf?src-supplier=Allied+Electronics; ComponentLink7Description: https://datasheet.ciiva.com/14604/70255710-14604313.pdf?src-supplier=Allied+Electronics; ComponentLink8URL: https://datasheet.ciiva.com/16432/aba0000ce2-16432906.pdf?src-supplier=Future+Electronics; ComponentLink8Description: https://datasheet.ciiva.com/16432/aba0000ce2-16432906.pdf?src-supplier=Future+Electronics; ComponentLink9URL: https://datasheet.ciiva.com/6085/aba0000ce2-6085101.pdf?src-supplier=Farnell; ComponentLink9Description: https://datasheet.ciiva.com/6085/aba0000ce2-6085101.pdf?src-supplier=Farnell; ComponentLink10URL: https://datasheet.ciiva.com/14606/70255710-14606093.pdf?src-supplier=Allied+Electronics; ComponentLink10Description: https://datasheet.ciiva.com/14606/70255710-14606093.pdf?src-supplier=Allied+Electronics; Supplier Part Number 1: 667-EEE-1CA220SR
footprint CAPAE530X560D650L220X65N (Capacitor, Aluminum Electrolytic; 5.30 mm L X 5.30 mm W X 5.60 mm H body)
pins: 1 +, 2 -

## ELKO_THT_10uF_6V
designator C?, comment 10uF 6V
ZESOI; Manufacturer Part Number: EEE-2AA100UP; Manufacturer: Panasonic Electronic Components; THT/SMT: SMT; Package / Case: Radial, Can - SMD; RoHS: RoHS Compliant; Datasheet: https://media.digikey.com/pdf/Data%20Sheets/Panasonic%20Electronic%20Components/S_Series,Type_V_Rev2018.pdf; Supplier 1: Digi-Key; Supplier Part Number 1: PCE3966CT-ND
footprint RB5-10.5 (Capacitor (Radial); 2 Leads)
pins: 1 +, 2 -

## F_MF-FSMF050X-2
designator F?, comment 0.5A 6V
Bourns 0.5A Surface Mount Resettable Fuse, 6 V; Manufacturer Part Number 1: MF-FSMF050X-2; Max Current Rating: 40A; Power Dissipation: 500mW; Hold Current: 500mA; Trip Current: 1A; Resistance: 800mR; Time to Trip: 0.1s; Approvals: UL; Supplier 1: Mouser; Manufacturer 1: Bourns; Stock 1: 15368; Pricing 1: 1=0.80000, 10=0.72500, 25=0.70100, 50=0.60000, 100=0.50000, 250=0.48800, 500=0.41300, 1000=0.36300, 10000=0.36300 (USD); RoHS: Yes; Mount: Surface Mount,PCB; Case/Package: 0603; Case Code (Metric): 1608; Case Code (Imperial): 0603; Number of Terminals: 2; Contact Plating: Gold; Terminal Material: Gold; Min Operating Temperature: -40°C; Max Operating Temperature: 85°C; Packaging: Tape and Reel; Current Rating: 40A; Package Quantity: 4000; Voltage Rating: 6V; Operating Supply Voltage: 6V; Termination: SMD/SMT; Voltage Rating (DC): 6V; Length: 1.85mm; Height: 1mm; Width: 1.05mm; Radiation Hardening: No; REACH SVHC: No SVHC; ComponentLink1URL: https://datasheet.ciiva.com/326/mffsmf-326536.pdf?src-supplier=Digi-Key; ComponentLink1Description: https://datasheet.ciiva.com/326/mffsmf-326536.pdf?src-supplier=Digi-Key; Supplier Part Number 1: 652-MFFSMF050X-2
footprint MF-FSMF050X (Fuse, 2-Leads, Body 1.65x0.85mm, IPC Medium Density)
pins: 1, 2

## Fiducial_Round
designator FID?  (value not drawn)  (no BOM)
Fiducial
footprint FID_ROUND_L
footprint FID_ROUND_N

## Fiducial_Square
designator FID?  (value not drawn)  (no BOM)
Fiducial
footprint FID_SQUARE_L
footprint FID_SQUARE_N

## HDR1X3_MALE_THT
designator X?
Header, Vertical, 2.54mm pitch
footprint HDRV3W63P254_3X1_760X250H960 (Header, Vertical, 2.54 mm pitch; 0.63 mm lead width, 3 pins, 1 row, 3 pins per row, 7.60 mm L X 2.50 mm W X 9.60 mm H body)
pins: 1, 2, 3

## HDR1X6_MALE_THT
designator X?
Header, Vertical, 2.54mm pitch
footprint HDR1X6 (Header, Vertical, 2.54 mm pitch; 0.63 mm lead width, 6 pins, 1 row)
pins: 1, 2, 3, 4, 5, 6

## HDR1X8_FEMALE_THT
designator X?
Header, Vertical, 2.54mm pitch
footprint RHDRV8W63P254_8X1_2032X250H960 (Header, Vertical Receptacle, 2.54 mm pitch; 0.63 mm lead width, 8 pins, 1 row, 8 pins per row, 20.32 mm L X 2.50 mm W X 9.60 mm H body)
pins: 1, 2, 3, 4, 5, 6, 7, 8

## HDR1X8_MALE_THT
designator X?
Header, Vertical, 2.54mm pitch
footprint HDRV8W63P254_8X1_2032X250H960 (Header, Vertical, 2.54 mm pitch; 0.63 mm lead width, 8 pins, 1 row, 8 pins per row, 20.32 mm L X 2.50 mm W X 9.60 mm H body)
pins: 1, 2, 3, 4, 5, 6, 7, 8

## HDR1X15
designator X?, comment 15X1
Header, Vertical, 2.54mm pitch
footprint HDR1X15 (Connector; Header; 15 Position)
pins: 1, 2, 3, 4, 5, 6, 7, 8, 9, 10, 11, 12, 13, 14, 15

## HDR_2X3_MALE_THT
designator X?  (value not drawn)
CONN HEADER VERT 6POS 2.54MM; Manufacturer 1: Amphenol FCI; Manufacturer Part Number 1: 67996-206HLF; Number of Contacts: 6; Voltage Rating: 1.5kV; Gender: Male; Connector Type: Male Pin; Current Rating: 3A; Insulation Resistance: 5GR; Row Spacing: 0.1inch; Contact Post Length: 2.41mm; Supplier 1: Mouser; RoHS: Yes; Category: Headers and Wire Housings; Stock 1: 2645; Pricing 1: 1=0.42000, 10=0.29700, 100=0.28500, 500=0.24500, 1000=0.20400, 2500=0.18600 (USD); Mount: Through Hole; Color: Black; Housing Color: Black; Housing Material: Thermoplastic; Contact Plating: Gold,GXT; Contact Material: Bronze; Min Operating Temperature: -65°C; Max Operating Temperature: 125°C; Number of Rows: 2; Termination: Solder; Package Quantity: 100; Packaging: Bulk; Contact Gender: Male; Number of Positions: 6; Max Voltage Rating (AC): 1.5kV; Orientation: Straight; Length: 7.62mm; Pitch: 2.54mm; Depth: 4.83mm; Contact Mating Length: 0.23inch; Radiation Hardening: No; REACH SVHC: No SVHC; Flammability Rating: UL94 V-0; ComponentLink1URL: https://datasheet.ciiva.com/728/67996-728902.pdf?src-supplier=Digi-Key; ComponentLink1Description: https://datasheet.ciiva.com/728/67996-728902.pdf?src-supplier=Digi-Key; ComponentLink2URL: https://datasheet.ciiva.com/10149/67996-10149193.pdf?src-supplier=Avnet; ComponentLink2Description: https://datasheet.ciiva.com/10149/67996-10149193.pdf?src-supplier=Avnet; ComponentLink3URL: https://datasheet.ciiva.com/46393/1748781-46393068.pdf?src-supplier=Element14; ComponentLink3Description: https://datasheet.ciiva.com/46393/1748781-46393068.pdf?src-supplier=Element14; ComponentLink4URL: https://datasheet.ciiva.com/14642/70236869-14642013.pdf?src-supplier=Allied+Electronics; ComponentLink4Description: https://datasheet.ciiva.com/14642/70236869-14642013.pdf?src-supplier=Allied+Electronics; Supplier Part Number 1: 649-67996-206HLF
footprint HDRV6W70P254_3X2_762X483H584 (Header, Vertical, 2.54 mm pitch; 0.70 mm lead width, 6 pins, 2 rows, 3 pins per row, 7.62 mm L X 4.83 mm W X 5.84 mm H body)
pins: 1, 2, 3, 4, 5, 6

## HOLDER_BAT_CR2032
designator BAT?, comment CR2032  (value not drawn)
Battery holder for CR2032
footprint BH-25 (CR2032 battery holder)
pins: 1 +, 2 -

## IC_74HC4050D,653
designator U?, comment 4050
Buffers & Line Drivers HEX HIGH-LOW LEVEL SHIFTER; Manufacturer 1: Nexperia; Manufacturer Part Number 1: 74HC4050D,653; Supplier 1: Mouser; Stock 1: 5329; Pricing 1: 1=0.42000, 10=0.35400, 100=0.21600, 1000=0.16700, 2500=0.14200, 10000=0.13300, 25000=0.12600, 50000=0.12300, 100000=0.11800 (USD); RoHS: No; ComponentLink1URL: https://www.mouser.com/ds/2/302/74HC4050-839758.pdf?src-supplier=Mouser; ComponentLink1Description: https://www.mouser.com/ds/2/302/74HC4050-839758.pdf?src-supplier=Mouser; ComponentLink2URL: https://assets.nexperia.com/documents/application-note/AN11044.pdf?src-supplier=Digi-Key; ComponentLink2Description: https://assets.nexperia.com/documents/application-note/AN11044.pdf?src-supplier=Digi-Key; Supplier Part Number 1: 771-74HC4050D-T
footprint SOIC16P127_990X600X175L70X42N (Small Outline IC (SOIC), 1.27 mm pitch; 16 pin, 9.90 mm L X 3.90 mm W X 1.75 mm H body)
pins: 1 VCC, 2 1Y, 3 1A, 4 2Y, 5 2A, 6 3Y, 7 3A, 8 GND, 9 4A, 10 4Y, 11 5A, 12 5Y, 13 NC, 14 6A, 15 6Y, 16 NC

## IC_ATMEGA328P-AUR
designator U?, comment ATMEGA328P
MCU 8-bit ATmega AVR RISC 32KB Flash 2.5V/3.3V/5V 32-Pin TQFP T/R; Manufacturer 1: Microchip / Atmel; Manufacturer Part Number 1: ATMEGA328P-AUR; Frequency: 20MHz; Interface: I2C,SPI,UART,USART,2-Wire; Number of I/Os: 23; Oscillator Type: Internal; Peripherals: Brown-out Detect/Reset,POR,PWM,WDT; Min Supply Voltage: 1.8V; Max Supply Voltage: 5.5V; RAM Size: 2KB; Number of Timers/Counters: 3; Data Bus Width: 8b; Watchdog Timer: Yes; Supplier 1: Mouser; Stock 1: 11866; Pricing 1: 1=2.14000, 10=2.11000, 25=1.96000, 50=1.96000, 100=1.78000, 1000=1.78000, 10000=1.60000 (USD); RoHS: Yes; Mount: Surface Mount; Case/Package: A; Number of Pins: 32; Contact Plating: Tin,Matte; Min Operating Temperature: -40°C; Max Operating Temperature: 85°C; Packaging: Tape and Reel; Memory Type: FLASH; Memory Size: 32KB; Core Architecture: AVR; Package Quantity: 2000; Number of Programmable I/O: 23; Max Frequency: 20MHz; REACH SVHC: No SVHC; Lead Free: Lead Free; ComponentLink1URL: https://datasheet.ciiva.com/6641/atmega48a-pa-88a-pa-168a-pa-328-p-ds-ds40002061a-6641009.pdf?src-supplier=Digi-Key; ComponentLink1Description: https://datasheet.ciiva.com/6641/atmega48a-pa-88a-pa-168a-pa-328-p-ds-ds40002061a-6641009.pdf?src-supplier=Digi-Key; Supplier Part Number 1: 556-ATMEGA328P-AUR
footprint QFP32P80_900X900X120L60X37N (Quad Flat Pack (QFP), 0.80 mm pitch; square, 8 pin X 8 pin, 7.00 mm L X 7.00 mm W X 1.20 mm H body)
pins: 1 PD3(INT1), 2 PD4(XCK/T0), 3 GND, 4 VCC, 5 GND, 6 VCC, 7 PB6(XTAL1/TOSC1), 8 PB7(XTAL2/TOSC2), 9 PD5(T1), 10 PD6(AIN0), 11 PD7(AIN1), 12 PB0(ICP), 13 PB1(OC1A), 14 PB2(SS/OC1B), 15 PB3(MOSI/OC2), 16 PB4(MISO), 17 PB5(SCK), 18 AVCC, 19 ADC6, 20 AREF, 21 AGND, 22 ADC7, 23 PC0(ADC0), 24 PC1(ADC1), 25 PC2(ADC2), 26 PC3(ADC3), 27 PC4(ADC4/SDA), 28 PC5(ADC5/SCL), 29 PC6(/RESET), 30 PD0(RXD), 31 PD1(TXD), 32 PD2(INT0)

## IC_ATTINY85_DIP8
designator U?, comment ATTINY85  (value not drawn)
Atmel 8-bit AVR Microcontroller with 2/4/8K Bytes In-System Programmable Flash; ComponentLink1Description: datasheet; ComponentLink1URL: http://ww1.microchip.com/downloads/en/DeviceDoc/Atmel-2586-AVR-8-bit-Microcontroller-ATtiny25-ATtiny45-ATtiny85_Datasheet.pdf
footprint DIPS750W60P254L1036H480Q8 (DIPS, 7.50 mm lead span, 2.54 mm pitch; 8 pin, 10.36 mm L X 10.10 mm W X 4.80 mm H body)
pins: 1 (PCINT5/RESET/ADC0/dW) PB5, 2 (PCINT3/XTAL1/CLKI/OC1B/ADC3) PB3, 3 (PCINT4/XTAL2/CLKO/OC1B/ADC2) PB4, 4 GND, 5  (MOSI/DI/SDA/AIN0/OC0A/OC1A/AREF/PCINT0) PB0, 6  (MISO/DO/AIN1/OC0B/OC1A/PCINT1) PB1, 7 (SCK/USCK/SCL/ADC1/T0/INT0/PCINT2) PB2, 8 VCC

## IC_BME280
designator U?, comment BME280  (value not drawn)
Combined humidity and pressure sensor; Manufacturer 1: Bosch; Supplier 1: Mouser; Manufacturer Part Number 1: BME280; Stock 1: 9438; Pricing 1: 1=3.73000, 10=3.73000, 25=3.73000, 50=3.66000, 100=3.57000, 500=2.73000, 1000=2.52000, 5000=2.43000, 10000=2.19000 (USD); RoHS: No; Case/Package: LGA; Number of Pins: 8; Lead Free: Lead Free; ComponentLink1URL: https://ae-bst.resource.bosch.com/media/_tech/media/product_flyer/BME280_Productflyer_BST_20170109.pdf?src-supplier=Future+Electronics; ComponentLink1Description: https://ae-bst.resource.bosch.com/media/_tech/media/product_flyer/BME280_Productflyer_BST_20170109.pdf?src-supplier=Future+Electronics; ComponentLink2URL: https://ae-bst.resource.bosch.com/media/_tech/media/datasheets/BST-BME280-DS002.pdf?src-supplier=Digi-Key; ComponentLink2Description: https://ae-bst.resource.bosch.com/media/_tech/media/datasheets/BST-BME280-DS002.pdf?src-supplier=Digi-Key; ComponentLink3URL: https://ae-bst.resource.bosch.com/media/_tech/media/product_flyer/BME280_Productflyer_BST_20170109.pdf?src-supplier=Arrow; ComponentLink3Description: https://ae-bst.resource.bosch.com/media/_tech/media/product_flyer/BME280_Productflyer_BST_20170109.pdf?src-supplier=Arrow; ComponentLink4URL: https://ae-bst.resource.bosch.com/media/_tech/media/product_flyer/BME280_Productflyer_BST_20170109.pdf?src-supplier=Mouser; ComponentLink4Description: https://ae-bst.resource.bosch.com/media/_tech/media/product_flyer/BME280_Productflyer_BST_20170109.pdf?src-supplier=Mouser; ComponentLink5URL: https://ae-bst.resource.bosch.com/media/_tech/media/product_flyer/BME280_Productflyer_BST_20170109.pdf?src-supplier=Rutronik; ComponentLink5Description: https://ae-bst.resource.bosch.com/media/_tech/media/product_flyer/BME280_Productflyer_BST_20170109.pdf?src-supplier=Rutronik; ComponentLink6URL: https://ae-bst.resource.bosch.com/media/_tech/media/product_flyer/BME280_Productflyer_BST_20170109.pdf?src-supplier=NAC+Semi; ComponentLink6Description: https://ae-bst.resource.bosch.com/media/_tech/media/product_flyer/BME280_Productflyer_BST_20170109.pdf?src-supplier=NAC+Semi; Supplier Part Number 1: 262-BME280
footprint PSON8P65_250X250X100L35X35N (Pullback Small Outline No-Lead (PSON), 0.65 mm pitch; 8 pin, 2.50 mm L X 2.50 mm W X 1.00 mm H body)
pins: 1 GND, 2 CSB, 3 SDI/SDA, 4 SCK/SCL, 5 SDO/ADDR, 6 VDDIO, 7 GND, 8 VDD

## IC_DS18B20
designator U?, comment DS18B20  (value not drawn)
MAXIM INTEGRATED PRODUCTS         DS18B20+.             12bit,  0.5C 1 Wire Digital Thermometer with Programmable Resolution in TO-92-3 Package; Output Type: Digital,Voltage; Max Supply Voltage: 5.5V; Min Supply Voltage: 3V; Interface: Serial; Resolution: 12b; Operating Supply Current: 1.5mA; Nominal Supply Current: 1mA; Number of Bits: 12; Output Current: 4mA; Sensor Type: Temperature; Supplier 1: Mouser; Manufacturer 1: Maxim; Manufacturer Part Number 1: DS18B20+; RoHS: Yes; Category: Integrated Circuits (ICs); Stock 1: 14311; Pricing 1: 1=3.16000, 10=2.84000, 25=2.69000, 50=2.69000, 100=2.52000, 250=2.52000 (USD); Mount: PCB,Through Hole; Case/Package: TO-92-3; Number of Pins: 3; Weight: 0.001lb; Min Operating Temperature: -55°C; Max Operating Temperature: 125°C; Packaging: Rail/Tube; Package Quantity: 10; Max Supply Voltage (DC): 5.5V; Min Supply Voltage (DC): 3V; Termination: SMD/SMT; Length: 4.95mm; Height: 4.95mm; Width: 3.94mm; Radiation Hardening: No; Lead Free: Lead Free; REACH SVHC: No SVHC; ComponentLink1URL: https://datasheet.ciiva.com/14100/ds18b20-eng-tds-14100018.pdf?src-supplier=Distrelec; ComponentLink1Description: https://datasheet.ciiva.com/14100/ds18b20-eng-tds-14100018.pdf?src-supplier=Distrelec; ComponentLink2URL: https://datasheet.ciiva.com/23809/46379-23809287.pdf?src-supplier=Newark; ComponentLink2Description: https://datasheet.ciiva.com/23809/46379-23809287.pdf?src-supplier=Newark; ComponentLink3URL: https://datasheet.ciiva.com/19456/865936-19456316.pdf?src-supplier=Jameco; ComponentLink3Description: https://datasheet.ciiva.com/19456/865936-19456316.pdf?src-supplier=Jameco; ComponentLink4URL: https://datasheet.ciiva.com/26887/ds18b20-26887123.pdf?src-supplier=IIIC; ComponentLink4Description: https://datasheet.ciiva.com/26887/ds18b20-26887123.pdf?src-supplier=IIIC; ComponentLink5URL: https://datasheet.ciiva.com/16470/ds18b20-16470492.pdf?src-supplier=Avnet+Asia; ComponentLink5Description: https://datasheet.ciiva.com/16470/ds18b20-16470492.pdf?src-supplier=Avnet+Asia; ComponentLink6URL: https://datasheet.ciiva.com/2003/ds18b20-2003437.pdf?src-supplier=Digi-Key; ComponentLink6Description: https://datasheet.ciiva.com/2003/ds18b20-2003437.pdf?src-supplier=Digi-Key; ComponentLink7URL: https://datasheet.ciiva.com/3277/ds18b20-3277869.pdf?src-supplier=Avnet; ComponentLink7Description: https://datasheet.ciiva.com/3277/ds18b20-3277869.pdf?src-supplier=Avnet; ComponentLink8URL: https://datasheet.ciiva.com/5696/ds18s20-5696782.pdf?src-supplier=Farnell; ComponentLink8Description: https://datasheet.ciiva.com/5696/ds18s20-5696782.pdf?src-supplier=Farnell; Supplier Part Number 1: 700-DS18B20+
footprint TO92-125P496H996-3 (TO-92, 1.25 mm pitch; 3 pin, 4.96 mm W X 9.96 mm H body)
pins: 1 GND, 2 DQ, 3 VDD